# EAGLE library part MCP23008_I2C (library gen433)
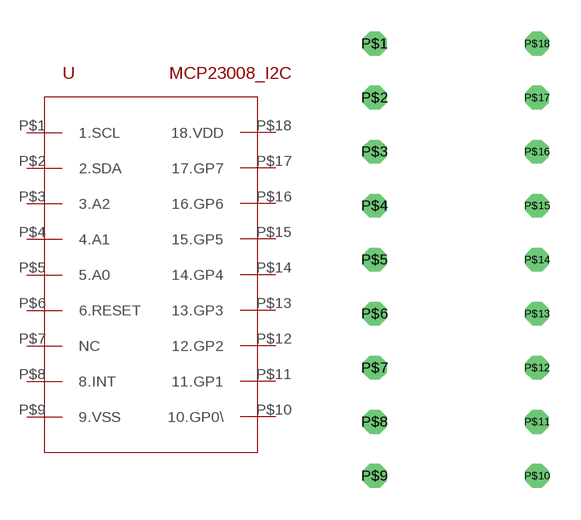
[diagram p3: symbol with the pads of MCP23008; footprint MCP23008]

Designator prefix -

## MCP23008_I2CMCP  [MCP23008]
P$1  1.SCL
P$2  2.SDA
P$3  3.A2
P$4  4.A1
P$5  5.A0
P$6  6.RESET
P$7  NC
P$8  8.INT
P$9  9.VSS
P$10  10.GP0\
P$11  11.GP1
P$12  12.GP2
P$13  13.GP3
P$14  14.GP4
P$15  15.GP5
P$16  16.GP6
P$17  17.GP7
P$18  18.VDD

## Footprint MCP23008 (pad centres in mm)
drill 0.6 octagon: P$1 -10.16,7.62; P$2 -10.16,5.08; P$3 -10.16,2.54; P$4 -10.16,0; P$5 -10.16,-2.54; P$6 -10.16,-5.08; P$7 -10.16,-7.62; P$8 -10.16,-10.16; P$9 -10.16,-12.7; P$10 -2.54,-12.7; P$11 -2.54,-10.16; P$12 -2.54,-7.62; P$13 -2.54,-5.08; P$14 -2.54,-2.54; P$15 -2.54,0; P$16 -2.54,2.54; P$17 -2.54,5.08; P$18 -2.54,7.62